# Altium footprint library PcbLib2.PcbLib: 1 footprints
Each footprint in its own frame and in the unit in brackets; x right, y up, seen from the top. Pads: shape width x height; smd on the part's side, far side on the other; paste and mask are expansions set on the pad; w line width, h text height; cw(c..) or ccw(c..) is an arc to the next point about the centre after c.
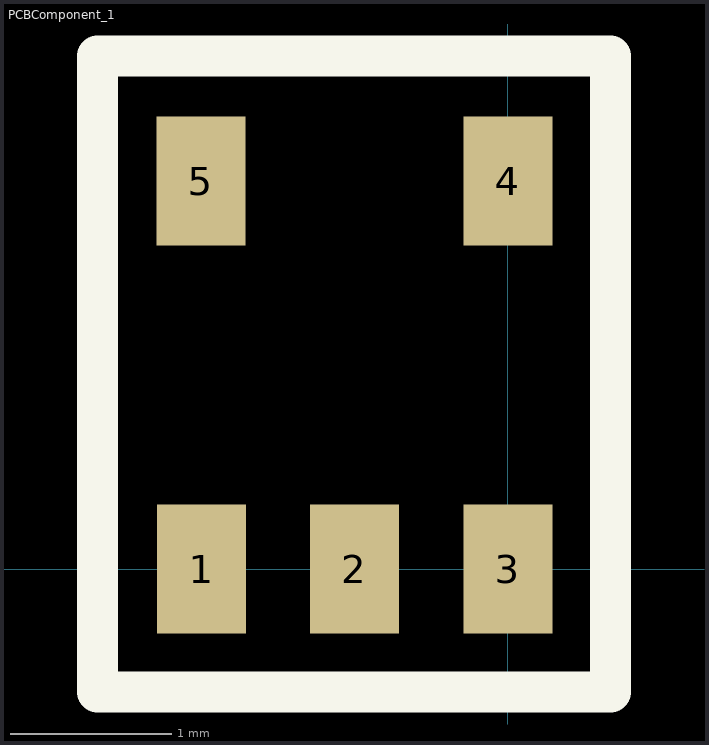
[diagram p0: the footprint, top view; thin cyan lines are the x and y axes]

## PCBComponent_1 [mm]
pads (5):
  rect 0.55x0.8 smd: 1(-1.895,0) 2(-0.95,0) 3(0,0) 4(0,2.4) 5(-1.9,2.4)
Top Overlay:
  lines w0.254: -2.54,-0.762 0.635,-0.762 0.635,-0.127 0.635,3.175 -2.54,3.175 -2.54,-0.762